# Altium integrated library CD4033BE.IntLib: 1 symbol
Pins are listed as number, name and electrical type; pins without a type are passive.

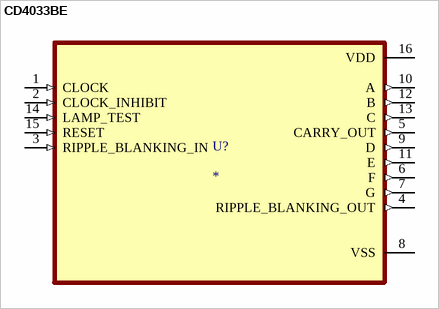
[diagram p0: symbol CD4033BE]

## CD4033BE
designator U?
CMOS Decade Counter/Divider with Decoded 7-Segment Display Outputs and Ripple Blanking 16-PDIP -55 to 125; MP: CD4033BE; MF: Texas Instruments; Package: PDIP-16 Texas Instruments; Availability: Good; Purchase-URL: https://pricing.snapeda.com/search/part/CD4033BE/?ref=eda; SnapEDA_Link: https://www.snapeda.com/parts/CD4033BE/Texas%20Instruments/view-part/627730/?ref=snap; Check_prices: https://www.snapeda.com/parts/CD4033BE/Texas%20Instruments/view-part/627730/?ref=eda; Value: *; Price: None
footprint DIP794W45P254L1969H508Q16
pins: 1 CLOCK (in), 2 CLOCK_INHIBIT (in), 3 RIPPLE_BLANKING_IN (in), 4 RIPPLE_BLANKING_OUT (out), 5 CARRY_OUT (out), 6 F (out), 7 G (out), 8 VSS (power), 9 D (out), 10 A (out), 11 E (out), 12 B (out), 13 C (out), 14 LAMP_TEST (in), 15 RESET (in), 16 VDD (power)